# Altium integrated library Analog Devices Operational Amplifiers.IntLib: 2102 symbols (part 39 of 70)
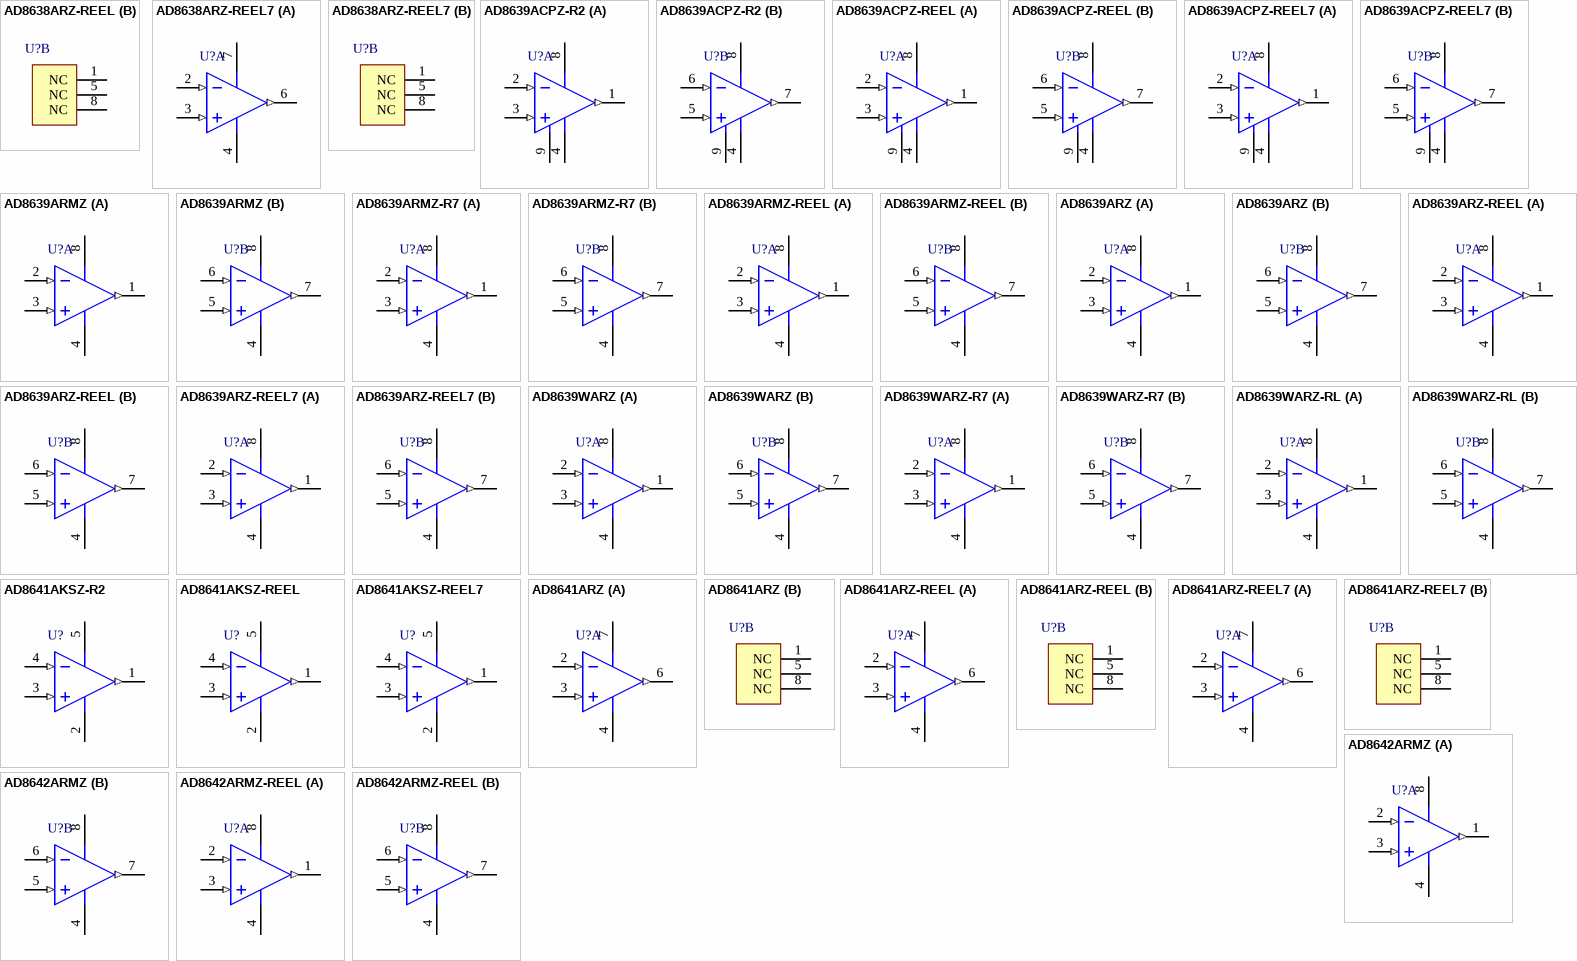
[diagram p152: symbols AD8638ARZ-REEL to AD8642ARMZ-REEL]

## AD8641ARZ-REEL
designator U?
Single Channel Very Low Input Bias Current Operational Amplifier, 3 MHz BW, 2 V/us SR, Industrial, 8-pin SOIC (R-8), Reel; Generic Part Number: AD8641; Manufacturer: Analog Devices; PartNumber: AD8641ARZ-REEL; Amplifiers Per Package: 1; Input Bias Current: 250fA; Input Offset Voltage: 50uV; Iq/Amp: 250µA; Slew Rate: 2V/us; Small Signal Bandwidth: 3MHz; V Span Max: 26V; V Span Min: 5V; DatasheetVersion: Rev. E; PackageVersion: 060506-A; PackageReference: R-8; PackageDescription: 8-Pin Standard Small Outline Package, Body 3.9 x 4.9 mm, Pitch 1.27 mm; Supplier 1: Digi-Key; Supplier Part Number 1: AD8641ARZ-REEL-ND; Mounting Technology: Surface Mount; Code_JEDEC: MS-012-AA; ComponentLink1Description: Manufacturer URL; ComponentLink1URL: http://www.analog.com/en/index.html; ComponentLink2Description: Datasheet; ComponentLink2URL: http://www.analog.com/static/imported-files/data_sheets/AD8641_8642_8643.pdf; ComponentLink3Description: Package Specification; ComponentLink3URL: http://www.analog.com/static/imported-files/packages/PKG_PDF/SOIC_Narrow%20(R)/R_8.pdf; ComponentLink4Description: Reference Circuit; ComponentLink4URL: http://www.analog.com/en/all-operational-amplifiers-op-amps/operational-amplifiers-op-amps/ad8641/products/product.html#product-recommendations
footprint ADI-R-8_N (SOIC, 8-Leads, Body 4.9x3.9mm, Pitch 1.27mm, IPC Medium Density)
footprint ADI-R-8_L (SOIC, 8-Leads, Body 4.9x3.9mm, Pitch 1.27mm, IPC High Density)
footprint ADI-R-8_M (SOIC, 8-Leads, Body 4.9x3.9mm, Pitch 1.27mm, IPC Low Density)
part A pins: 2 -IN (in), 3 +IN (in), 4 VEE (power), 6 OUT (out), 7 VCC (power)
part B pins: 1 NC, 5 NC, 8 NC

## AD8641ARZ-REEL7
designator U?
Single Channel Very Low Input Bias Current Operational Amplifier, 3 MHz BW, 2 V/us SR, Industrial, 8-pin SOIC (R-8), Reel; Generic Part Number: AD8641; Manufacturer: Analog Devices; PartNumber: AD8641ARZ-REEL7; Amplifiers Per Package: 1; Input Bias Current: 250fA; Input Offset Voltage: 50uV; Iq/Amp: 250µA; Slew Rate: 2V/us; Small Signal Bandwidth: 3MHz; V Span Max: 26V; V Span Min: 5V; DatasheetVersion: Rev. E; PackageVersion: 060506-A; PackageReference: R-8; PackageDescription: 8-Pin Standard Small Outline Package, Body 3.9 x 4.9 mm, Pitch 1.27 mm; Supplier 1: Digi-Key; Supplier Part Number 1: AD8641ARZ-REEL7-ND; Mounting Technology: Surface Mount; Code_JEDEC: MS-012-AA; ComponentLink1Description: Manufacturer URL; ComponentLink1URL: http://www.analog.com/en/index.html; ComponentLink2Description: Datasheet; ComponentLink2URL: http://www.analog.com/static/imported-files/data_sheets/AD8641_8642_8643.pdf; ComponentLink3Description: Package Specification; ComponentLink3URL: http://www.analog.com/static/imported-files/packages/PKG_PDF/SOIC_Narrow%20(R)/R_8.pdf; ComponentLink4Description: Reference Circuit; ComponentLink4URL: http://www.analog.com/en/all-operational-amplifiers-op-amps/operational-amplifiers-op-amps/ad8641/products/product.html#product-recommendations
footprint ADI-R-8_N (SOIC, 8-Leads, Body 4.9x3.9mm, Pitch 1.27mm, IPC Medium Density)
footprint ADI-R-8_L (SOIC, 8-Leads, Body 4.9x3.9mm, Pitch 1.27mm, IPC High Density)
footprint ADI-R-8_M (SOIC, 8-Leads, Body 4.9x3.9mm, Pitch 1.27mm, IPC Low Density)
part A pins: 2 -IN (in), 3 +IN (in), 4 VEE (power), 6 OUT (out), 7 VCC (power)
part B pins: 1 NC, 5 NC, 8 NC

## AD8642ARMZ
designator U?
Double Channel Very Low Input Bias Current Operational Amplifier, 3.5 MHz BW, 3 V/us SR, Industrial, 8-pin SOP (RM-8), Tube; Generic Part Number: AD8642; Manufacturer: Analog Devices; PartNumber: AD8642ARMZ; Amplifiers Per Package: 2; Input Bias Current: 250fA; Input Offset Voltage: 50uV; Iq/Amp: 290uA; Slew Rate: 3V/us; Small Signal Bandwidth: 3.5MHz; V Span Max: 26V; V Span Min: 5V; DatasheetVersion: Rev. E; PackageReference: RM-8; PackageDescription: 8-Pin Mini Small Outline Package, Body 3 x 3 mm, Pitch 0.65 mm; Supplier 1: Digi-Key; Supplier Part Number 1: AD8642ARMZ-ND; Supplier 2: Newark; Supplier Part Number 2: 45P6468; Mounting Technology: Surface Mount; Code_JEDEC: MO-187-AA; ComponentLink1Description: Manufacturer URL; ComponentLink1URL: http://www.analog.com/en/index.html; ComponentLink2Description: Datasheet; ComponentLink2URL: http://www.analog.com/static/imported-files/data_sheets/AD8641_8642_8643.pdf; ComponentLink3Description: Package Specification; ComponentLink3URL: http://www.analog.com/static/imported-files/packages/PKG_PDF/MSOP%28RM%29/RM_8.pdf
footprint ADI-RM-8_N (SOP, 8-Leads, Body 3x3mm, Pitch 0.65mm, IPC Medium Density)
footprint ADI-RM-8_L (SOP, 8-Leads, Body 3x3mm, Pitch 0.65mm, IPC High Density)
footprint ADI-RM-8_M (SOP, 8-Leads, Body 3x3mm, Pitch 0.65mm, IPC Low Density)
pins on every part: 4 -V (power), 8 +V (power)
part A pins: 1 OUT A (out), 2 -IN A (in), 3 +IN A (in)
part B pins: 5 +IN B (in), 6 -IN B (in), 7 OUT B (out)

## AD8642ARMZ-REEL
designator U?
Double Channel Very Low Input Bias Current Operational Amplifier, 3.5 MHz BW, 3 V/us SR, Industrial, 8-pin SOP (RM-8), Reel; Generic Part Number: AD8642; Manufacturer: Analog Devices; PartNumber: AD8642ARMZ-REEL; Amplifiers Per Package: 2; Input Bias Current: 250fA; Input Offset Voltage: 50uV; Iq/Amp: 290uA; Slew Rate: 3V/us; Small Signal Bandwidth: 3.5MHz; V Span Max: 26V; V Span Min: 5V; DatasheetVersion: Rev. E; PackageReference: RM-8; PackageDescription: 8-Pin Mini Small Outline Package, Body 3 x 3 mm, Pitch 0.65 mm; Supplier 1: Digi-Key; Supplier Part Number 1: AD8642ARMZ-REELTR-ND; Supplier 2: Digi-Key; Supplier Part Number 2: AD8642ARMZ-REELCT-ND; Supplier 3: Digi-Key; Supplier Part Number 3: AD8642ARMZ-REELDKR-ND; Supplier 4: Newark; Supplier Part Number 4: 59K7025; Mounting Technology: Surface Mount; Code_JEDEC: MO-187-AA; ComponentLink1Description: Manufacturer URL; ComponentLink1URL: http://www.analog.com/en/index.html; ComponentLink2Description: Datasheet; ComponentLink2URL: http://www.analog.com/static/imported-files/data_sheets/AD8641_8642_8643.pdf; ComponentLink3Description: Package Specification; ComponentLink3URL: http://www.analog.com/static/imported-files/packages/PKG_PDF/MSOP%28RM%29/RM_8.pdf
footprint ADI-RM-8_N (SOP, 8-Leads, Body 3x3mm, Pitch 0.65mm, IPC Medium Density)
footprint ADI-RM-8_L (SOP, 8-Leads, Body 3x3mm, Pitch 0.65mm, IPC High Density)
footprint ADI-RM-8_M (SOP, 8-Leads, Body 3x3mm, Pitch 0.65mm, IPC Low Density)
pins on every part: 4 -V (power), 8 +V (power)
part A pins: 1 OUT A (out), 2 -IN A (in), 3 +IN A (in)
part B pins: 5 +IN B (in), 6 -IN B (in), 7 OUT B (out)

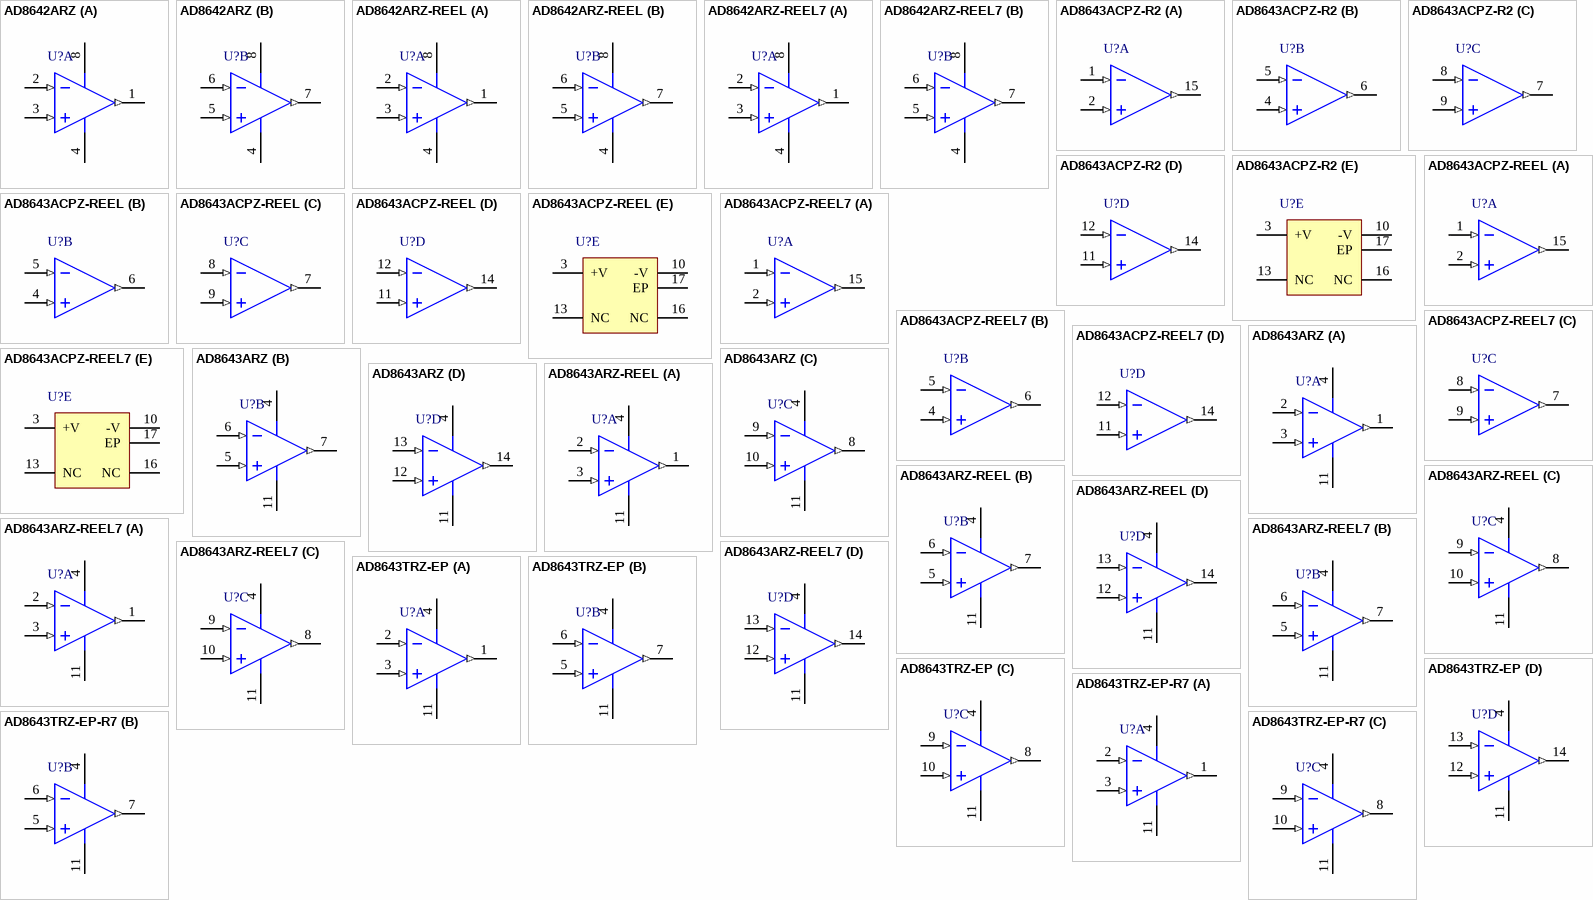
[diagram p59: symbols AD8642ARZ to AD8643TRZ-EP-R7]

## AD8642ARZ
designator U?
Double Channel Very Low Input Bias Current Operational Amplifier, 3.5 MHz BW, 3 V/us SR, Industrial, 8-pin SOIC (R-8), Tube; Generic Part Number: AD8642; Manufacturer: Analog Devices; PartNumber: AD8642ARZ; Amplifiers Per Package: 2; Input Bias Current: 250fA; Input Offset Voltage: 50uV; Iq/Amp: 290uA; Slew Rate: 3V/us; Small Signal Bandwidth: 3.5MHz; V Span Max: 26V; V Span Min: 5V; DatasheetVersion: Rev. E; PackageVersion: 060506-A; PackageReference: R-8; PackageDescription: 8-Pin Standard Small Outline Package, Body 3.9 x 4.9 mm, Pitch 1.27 mm; Supplier 1: Digi-Key; Supplier Part Number 1: AD8642ARZ-ND; Supplier 2: Farnell; Supplier Part Number 2: 9994327; Supplier 3: Newark; Supplier Part Number 3: 19M0986; Mounting Technology: Surface Mount; Code_JEDEC: MS-012-AA; ComponentLink1Description: Manufacturer URL; ComponentLink1URL: http://www.analog.com/en/index.html; ComponentLink2Description: Datasheet; ComponentLink2URL: http://www.analog.com/static/imported-files/data_sheets/AD8641_8642_8643.pdf; ComponentLink3Description: Package Specification; ComponentLink3URL: http://www.analog.com/static/imported-files/packages/PKG_PDF/SOIC_Narrow%20(R)/R_8.pdf
footprint ADI-R-8_N (SOIC, 8-Leads, Body 4.9x3.9mm, Pitch 1.27mm, IPC Medium Density)
footprint ADI-R-8_L (SOIC, 8-Leads, Body 4.9x3.9mm, Pitch 1.27mm, IPC High Density)
footprint ADI-R-8_M (SOIC, 8-Leads, Body 4.9x3.9mm, Pitch 1.27mm, IPC Low Density)
pins on every part: 4 -V (power), 8 +V (power)
part A pins: 1 OUT A (out), 2 -IN A (in), 3 +IN A (in)
part B pins: 5 +IN B (in), 6 -IN B (in), 7 OUT B (out)

## AD8642ARZ-REEL
designator U?
Double Channel Very Low Input Bias Current Operational Amplifier, 3.5 MHz BW, 3 V/us SR, Industrial, 8-pin SOIC (R-8), Reel; Generic Part Number: AD8642; Manufacturer: Analog Devices; PartNumber: AD8642ARZ-REEL; Amplifiers Per Package: 2; Input Bias Current: 250fA; Input Offset Voltage: 50uV; Iq/Amp: 290uA; Slew Rate: 3V/us; Small Signal Bandwidth: 3.5MHz; V Span Max: 26V; V Span Min: 5V; DatasheetVersion: Rev. E; PackageVersion: 060506-A; PackageReference: R-8; PackageDescription: 8-Pin Standard Small Outline Package, Body 3.9 x 4.9 mm, Pitch 1.27 mm; Supplier 1: Digi-Key; Supplier Part Number 1: AD8642ARZ-REEL-ND; Mounting Technology: Surface Mount; Code_JEDEC: MS-012-AA; ComponentLink1Description: Manufacturer URL; ComponentLink1URL: http://www.analog.com/en/index.html; ComponentLink2Description: Datasheet; ComponentLink2URL: http://www.analog.com/static/imported-files/data_sheets/AD8641_8642_8643.pdf; ComponentLink3Description: Package Specification; ComponentLink3URL: http://www.analog.com/static/imported-files/packages/PKG_PDF/SOIC_Narrow%20(R)/R_8.pdf
footprint ADI-R-8_N (SOIC, 8-Leads, Body 4.9x3.9mm, Pitch 1.27mm, IPC Medium Density)
footprint ADI-R-8_L (SOIC, 8-Leads, Body 4.9x3.9mm, Pitch 1.27mm, IPC High Density)
footprint ADI-R-8_M (SOIC, 8-Leads, Body 4.9x3.9mm, Pitch 1.27mm, IPC Low Density)
pins on every part: 4 -V (power), 8 +V (power)
part A pins: 1 OUT A (out), 2 -IN A (in), 3 +IN A (in)
part B pins: 5 +IN B (in), 6 -IN B (in), 7 OUT B (out)

## AD8642ARZ-REEL7
designator U?
Double Channel Very Low Input Bias Current Operational Amplifier, 3.5 MHz BW, 3 V/us SR, Industrial, 8-pin SOIC (R-8), Reel; Generic Part Number: AD8642; Manufacturer: Analog Devices; PartNumber: AD8642ARZ-REEL7; Amplifiers Per Package: 2; Input Bias Current: 250fA; Input Offset Voltage: 50uV; Iq/Amp: 290uA; Slew Rate: 3V/us; Small Signal Bandwidth: 3.5MHz; V Span Max: 26V; V Span Min: 5V; DatasheetVersion: Rev. E; PackageVersion: 060506-A; PackageReference: R-8; PackageDescription: 8-Pin Standard Small Outline Package, Body 3.9 x 4.9 mm, Pitch 1.27 mm; Supplier 1: Digi-Key; Supplier Part Number 1: AD8642ARZ-REEL7TR-ND; Supplier 2: Digi-Key; Supplier Part Number 2: AD8642ARZ-REEL7CT-ND; Supplier 3: Digi-Key; Supplier Part Number 3: AD8642ARZ-REEL7DKR-ND; Mounting Technology: Surface Mount; Code_JEDEC: MS-012-AA; ComponentLink1Description: Manufacturer URL; ComponentLink1URL: http://www.analog.com/en/index.html; ComponentLink2Description: Datasheet; ComponentLink2URL: http://www.analog.com/static/imported-files/data_sheets/AD8641_8642_8643.pdf; ComponentLink3Description: Package Specification; ComponentLink3URL: http://www.analog.com/static/imported-files/packages/PKG_PDF/SOIC_Narrow%20(R)/R_8.pdf
footprint ADI-R-8_N (SOIC, 8-Leads, Body 4.9x3.9mm, Pitch 1.27mm, IPC Medium Density)
footprint ADI-R-8_L (SOIC, 8-Leads, Body 4.9x3.9mm, Pitch 1.27mm, IPC High Density)
footprint ADI-R-8_M (SOIC, 8-Leads, Body 4.9x3.9mm, Pitch 1.27mm, IPC Low Density)
pins on every part: 4 -V (power), 8 +V (power)
part A pins: 1 OUT A (out), 2 -IN A (in), 3 +IN A (in)
part B pins: 5 +IN B (in), 6 -IN B (in), 7 OUT B (out)

## AD8643ACPZ-R2
designator U?
Quad Channel Very Low Input Bias Current Operational Amplifier, 3.5 MHz BW, 3 V/us SR, Industrial, 16-pin QFN (CP-16-3), Reel; Generic Part Number: AD8643; Manufacturer: Analog Devices; PartNumber: AD8643ACPZ-R2; Amplifiers Per Package: 4; Input Bias Current: 250fA; Input Offset Voltage: 50uV; Iq/Amp: 290uA; Slew Rate: 3V/us; Small Signal Bandwidth: 3.5MHz; V Span Max: 26V; V Span Min: 5V; DatasheetVersion: Rev. E; PackageReference: CP-16-3; PackageDescription: 16-Pin Lead Frame Chip Scale Package, Body 3 x 3 mm, Pitch 0.5 mm; Supplier 1: Digi-Key; Supplier Part Number 1: AD8643ACPZ-R2TR-ND; Supplier 2: Digi-Key; Supplier Part Number 2: AD8643ACPZ-R2CT-ND; Supplier 3: Digi-Key; Supplier Part Number 3: AD8643ACPZ-R2DKR-ND; Supplier 4: Newark; Supplier Part Number 4: 19M8937; Mounting Technology: Surface Mount; Code_JEDEC: MO-220-VEED-2; ComponentLink1Description: Manufacturer URL; ComponentLink1URL: http://www.analog.com/en/index.html; ComponentLink2Description: Datasheet; ComponentLink2URL: http://www.analog.com/static/imported-files/data_sheets/AD8641_8642_8643.pdf; ComponentLink3Description: Package Specification; ComponentLink3URL: http://www.analog.com/static/imported-files/packages/PKG_PDF/LFCSP(CP)/CP_16_3.pdf
footprint ADI-CP-16-3_N (QFN, 16-Leads, Body 3x3mm, Pitch 0.5mm, Thermal Pad 1.5x1.5mm, IPC Medium Density)
footprint ADI-CP-16-3_L (QFN, 16-Leads, Body 3x3mm, Pitch 0.5mm, Thermal Pad 1.5x1.5mm, IPC High Density)
footprint ADI-CP-16-3_M (QFN, 16-Leads, Body 3x3mm, Pitch 0.5mm, Thermal Pad 1.5x1.5mm, IPC Low Density)
part A pins: 1 -IN A (in), 2 +IN A (in), 15 OUT A (out)
part B pins: 4 +IN B (in), 5 -IN B (in), 6 OUT B (out)
part C pins: 7 OUT C (out), 8 -IN C (in), 9 +IN C (in)
part D pins: 11 +IN D (in), 12 -IN D (in), 14 OUT D (out)
part E pins: 3 +V (power), 10 -V (power), 13 NC, 16 NC, 17 EP (power) "IT IS RECOMMENDED TO CONNECT THE EXPOSED PAD TO V-."

## AD8643ACPZ-REEL
designator U?
Quad Channel Very Low Input Bias Current Operational Amplifier, 3.5 MHz BW, 3 V/us SR, Industrial, 16-pin QFN (CP-16-3), Reel; Generic Part Number: AD8643; Manufacturer: Analog Devices; PartNumber: AD8643ACPZ-REEL; Amplifiers Per Package: 4; Input Bias Current: 250fA; Input Offset Voltage: 50uV; Iq/Amp: 290uA; Slew Rate: 3V/us; Small Signal Bandwidth: 3.5MHz; V Span Max: 26V; V Span Min: 5V; DatasheetVersion: Rev. E; PackageReference: CP-16-3; PackageDescription: 16-Pin Lead Frame Chip Scale Package, Body 3 x 3 mm, Pitch 0.5 mm; Supplier 1: Digi-Key; Supplier Part Number 1: AD8643ACPZ-REEL-ND; Mounting Technology: Surface Mount; Code_JEDEC: MO-220-VEED-2; ComponentLink1Description: Manufacturer URL; ComponentLink1URL: http://www.analog.com/en/index.html; ComponentLink2Description: Datasheet; ComponentLink2URL: http://www.analog.com/static/imported-files/data_sheets/AD8641_8642_8643.pdf; ComponentLink3Description: Package Specification; ComponentLink3URL: http://www.analog.com/static/imported-files/packages/PKG_PDF/LFCSP(CP)/CP_16_3.pdf
footprint ADI-CP-16-3_N (QFN, 16-Leads, Body 3x3mm, Pitch 0.5mm, Thermal Pad 1.5x1.5mm, IPC Medium Density)
footprint ADI-CP-16-3_L (QFN, 16-Leads, Body 3x3mm, Pitch 0.5mm, Thermal Pad 1.5x1.5mm, IPC High Density)
footprint ADI-CP-16-3_M (QFN, 16-Leads, Body 3x3mm, Pitch 0.5mm, Thermal Pad 1.5x1.5mm, IPC Low Density)
part A pins: 1 -IN A (in), 2 +IN A (in), 15 OUT A (out)
part B pins: 4 +IN B (in), 5 -IN B (in), 6 OUT B (out)
part C pins: 7 OUT C (out), 8 -IN C (in), 9 +IN C (in)
part D pins: 11 +IN D (in), 12 -IN D (in), 14 OUT D (out)
part E pins: 3 +V (power), 10 -V (power), 13 NC, 16 NC, 17 EP (power) "IT IS RECOMMENDED TO CONNECT THE EXPOSED PAD TO V-."

## AD8643ACPZ-REEL7
designator U?
Quad Channel Very Low Input Bias Current Operational Amplifier, 3.5 MHz BW, 3 V/us SR, Industrial, 16-pin QFN (CP-16-3), Reel; Generic Part Number: AD8643; Manufacturer: Analog Devices; PartNumber: AD8643ACPZ-REEL7; Amplifiers Per Package: 4; Input Bias Current: 250fA; Input Offset Voltage: 50uV; Iq/Amp: 290uA; Slew Rate: 3V/us; Small Signal Bandwidth: 3.5MHz; V Span Max: 26V; V Span Min: 5V; DatasheetVersion: Rev. E; PackageReference: CP-16-3; PackageDescription: 16-Pin Lead Frame Chip Scale Package, Body 3 x 3 mm, Pitch 0.5 mm; Supplier 1: Digi-Key; Supplier Part Number 1: AD8643ACPZ-REEL7TR-ND; Supplier 2: Digi-Key; Supplier Part Number 2: AD8643ACPZ-REEL7CT-ND; Supplier 3: Digi-Key; Supplier Part Number 3: AD8643ACPZ-REEL7DKR-ND; Supplier 4: Newark; Supplier Part Number 4: 59K7031; Mounting Technology: Surface Mount; Code_JEDEC: MO-220-VEED-2; ComponentLink1Description: Manufacturer URL; ComponentLink1URL: http://www.analog.com/en/index.html; ComponentLink2Description: Datasheet; ComponentLink2URL: http://www.analog.com/static/imported-files/data_sheets/AD8641_8642_8643.pdf; ComponentLink3Description: Package Specification; ComponentLink3URL: http://www.analog.com/static/imported-files/packages/PKG_PDF/LFCSP(CP)/CP_16_3.pdf
footprint ADI-CP-16-3_N (QFN, 16-Leads, Body 3x3mm, Pitch 0.5mm, Thermal Pad 1.5x1.5mm, IPC Medium Density)
footprint ADI-CP-16-3_L (QFN, 16-Leads, Body 3x3mm, Pitch 0.5mm, Thermal Pad 1.5x1.5mm, IPC High Density)
footprint ADI-CP-16-3_M (QFN, 16-Leads, Body 3x3mm, Pitch 0.5mm, Thermal Pad 1.5x1.5mm, IPC Low Density)
part A pins: 1 -IN A (in), 2 +IN A (in), 15 OUT A (out)
part B pins: 4 +IN B (in), 5 -IN B (in), 6 OUT B (out)
part C pins: 7 OUT C (out), 8 -IN C (in), 9 +IN C (in)
part D pins: 11 +IN D (in), 12 -IN D (in), 14 OUT D (out)
part E pins: 3 +V (power), 10 -V (power), 13 NC, 16 NC, 17 EP (power) "IT IS RECOMMENDED TO CONNECT THE EXPOSED PAD TO V-."

## AD8643ARZ
designator U?
Quad Channel Very Low Input Bias Current Operational Amplifier, 3.5 MHz BW, 3 V/us SR, Industrial, 14-pin SOIC (R-14), Tube; Generic Part Number: AD8643; Manufacturer: Analog Devices; PartNumber: AD8643ARZ; Amplifiers Per Package: 4; Input Bias Current: 250fA; Input Offset Voltage: 50uV; Iq/Amp: 290uA; Slew Rate: 3V/us; Small Signal Bandwidth: 3.5MHz; V Span Max: 26V; V Span Min: 5V; DatasheetVersion: Rev. E; PackageVersion: 060606-A; PackageReference: R-14; PackageDescription: 14-Pin Standard Small Outline Package, Body 8.65 x 3.9 mm, Pitch 1.27 mm; Supplier 1: Digi-Key; Supplier Part Number 1: AD8643ARZ-ND; Supplier 2: Farnell; Supplier Part Number 2: 1078270; Supplier 3: Newark; Supplier Part Number 3: 19M0987; Mounting Technology: Surface Mount; Code_JEDEC: MS-012-AB; ComponentLink1Description: Manufacturer URL; ComponentLink1URL: http://www.analog.com/en/index.html; ComponentLink2Description: Datasheet; ComponentLink2URL: http://www.analog.com/static/imported-files/data_sheets/AD8641_8642_8643.pdf; ComponentLink3Description: Package Specification; ComponentLink3URL: http://www.analog.com/static/imported-files/packages/PKG_PDF/SOIC_Narrow%20(R)/R_14.pdf
footprint ADI-R-14_N (SOIC, 14-Leads, Body 8.65x3.9mm, Pitch 1.27mm, IPC Medium Density)
footprint ADI-R-14_L (SOIC, 14-Leads, Body 8.65x3.9mm, Pitch 1.27mm, IPC High Density)
footprint ADI-R-14_M (SOIC, 14-Leads, Body 8.65x3.9mm, Pitch 1.27mm, IPC Low Density)
pins on every part: 4 +V (power), 11 -V (power)
part A pins: 1 OUT A (out), 2 -IN A (in), 3 +IN A (in)
part B pins: 5 +IN B (in), 6 -IN B (in), 7 OUT B (out)
part C pins: 8 OUT C (out), 9 -IN C (in), 10 +IN C (in)
part D pins: 12 +IN D (in), 13 -IN D (in), 14 OUT D (out)

## AD8643ARZ-REEL
designator U?
Quad Channel Very Low Input Bias Current Operational Amplifier, 3.5 MHz BW, 3 V/us SR, Industrial, 14-pin SOIC (R-14), Reel; Generic Part Number: AD8643; Manufacturer: Analog Devices; PartNumber: AD8643ARZ-REEL; Amplifiers Per Package: 4; Input Bias Current: 250fA; Input Offset Voltage: 50uV; Iq/Amp: 290uA; Slew Rate: 3V/us; Small Signal Bandwidth: 3.5MHz; V Span Max: 26V; V Span Min: 5V; DatasheetVersion: Rev. E; PackageVersion: 060606-A; PackageReference: R-14; PackageDescription: 14-Pin Standard Small Outline Package, Body 8.65 x 3.9 mm, Pitch 1.27 mm; Supplier 1: Digi-Key; Supplier Part Number 1: AD8643ARZ-REEL-ND; Mounting Technology: Surface Mount; Code_JEDEC: MS-012-AB; ComponentLink1Description: Manufacturer URL; ComponentLink1URL: http://www.analog.com/en/index.html; ComponentLink2Description: Datasheet; ComponentLink2URL: http://www.analog.com/static/imported-files/data_sheets/AD8641_8642_8643.pdf; ComponentLink3Description: Package Specification; ComponentLink3URL: http://www.analog.com/static/imported-files/packages/PKG_PDF/SOIC_Narrow%20(R)/R_14.pdf
footprint ADI-R-14_N (SOIC, 14-Leads, Body 8.65x3.9mm, Pitch 1.27mm, IPC Medium Density)
footprint ADI-R-14_L (SOIC, 14-Leads, Body 8.65x3.9mm, Pitch 1.27mm, IPC High Density)
footprint ADI-R-14_M (SOIC, 14-Leads, Body 8.65x3.9mm, Pitch 1.27mm, IPC Low Density)
pins on every part: 4 +V (power), 11 -V (power)
part A pins: 1 OUT A (out), 2 -IN A (in), 3 +IN A (in)
part B pins: 5 +IN B (in), 6 -IN B (in), 7 OUT B (out)
part C pins: 8 OUT C (out), 9 -IN C (in), 10 +IN C (in)
part D pins: 12 +IN D (in), 13 -IN D (in), 14 OUT D (out)

## AD8643ARZ-REEL7
designator U?
Quad Channel Very Low Input Bias Current Operational Amplifier, 3.5 MHz BW, 3 V/us SR, Industrial, 14-pin SOIC (R-14), Reel; Generic Part Number: AD8643; Manufacturer: Analog Devices; PartNumber: AD8643ARZ-REEL7; Amplifiers Per Package: 4; Input Bias Current: 250fA; Input Offset Voltage: 50uV; Iq/Amp: 290uA; Slew Rate: 3V/us; Small Signal Bandwidth: 3.5MHz; V Span Max: 26V; V Span Min: 5V; DatasheetVersion: Rev. E; PackageVersion: 060606-A; PackageReference: R-14; PackageDescription: 14-Pin Standard Small Outline Package, Body 8.65 x 3.9 mm, Pitch 1.27 mm; Supplier 1: Digi-Key; Supplier Part Number 1: AD8643ARZ-REEL7-ND; Supplier 2: Newark; Supplier Part Number 2: 59K7035; Mounting Technology: Surface Mount; Code_JEDEC: MS-012-AB; ComponentLink1Description: Manufacturer URL; ComponentLink1URL: http://www.analog.com/en/index.html; ComponentLink2Description: Datasheet; ComponentLink2URL: http://www.analog.com/static/imported-files/data_sheets/AD8641_8642_8643.pdf; ComponentLink3Description: Package Specification; ComponentLink3URL: http://www.analog.com/static/imported-files/packages/PKG_PDF/SOIC_Narrow%20(R)/R_14.pdf
footprint ADI-R-14_N (SOIC, 14-Leads, Body 8.65x3.9mm, Pitch 1.27mm, IPC Medium Density)
footprint ADI-R-14_L (SOIC, 14-Leads, Body 8.65x3.9mm, Pitch 1.27mm, IPC High Density)
footprint ADI-R-14_M (SOIC, 14-Leads, Body 8.65x3.9mm, Pitch 1.27mm, IPC Low Density)
pins on every part: 4 +V (power), 11 -V (power)
part A pins: 1 OUT A (out), 2 -IN A (in), 3 +IN A (in)
part B pins: 5 +IN B (in), 6 -IN B (in), 7 OUT B (out)
part C pins: 8 OUT C (out), 9 -IN C (in), 10 +IN C (in)
part D pins: 12 +IN D (in), 13 -IN D (in), 14 OUT D (out)

## AD8643TRZ-EP
designator U?
Quad Channel Very Low Input Bias Current Operational Amplifier, 3.5 MHz BW, 3 V/us SR, Military, 14-pin SOIC (R-14), Tube; Generic Part Number: AD8643; Manufacturer: Analog Devices; PartNumber: AD8643TRZ-EP; Amplifiers Per Package: 4; Input Bias Current: 250fA; Input Offset Voltage: 50uV; Iq/Amp: 290uA; Slew Rate: 3V/us; Small Signal Bandwidth: 3.5MHz; V Span Max: 26V; V Span Min: 5V; DatasheetVersion: Rev. E; PackageVersion: 060606-A; PackageReference: R-14; PackageDescription: 14-Pin Standard Small Outline Package, Body 8.65 x 3.9 mm, Pitch 1.27 mm; Supplier 1: Digi-Key; Supplier Part Number 1: AD8643TRZ-EP-ND; Mounting Technology: Surface Mount; Code_JEDEC: MS-012-AB; ComponentLink1Description: Manufacturer URL; ComponentLink1URL: http://www.analog.com/en/index.html; ComponentLink2Description: Datasheet; ComponentLink2URL: http://www.analog.com/static/imported-files/data_sheets/AD8641_8642_8643.pdf; ComponentLink3Description: Package Specification; ComponentLink3URL: http://www.analog.com/static/imported-files/packages/PKG_PDF/SOIC_Narrow%20(R)/R_14.pdf
footprint ADI-R-14_N (SOIC, 14-Leads, Body 8.65x3.9mm, Pitch 1.27mm, IPC Medium Density)
footprint ADI-R-14_L (SOIC, 14-Leads, Body 8.65x3.9mm, Pitch 1.27mm, IPC High Density)
footprint ADI-R-14_M (SOIC, 14-Leads, Body 8.65x3.9mm, Pitch 1.27mm, IPC Low Density)
pins on every part: 4 +V (power), 11 -V (power)
part A pins: 1 OUT A (out), 2 -IN A (in), 3 +IN A (in)
part B pins: 5 +IN B (in), 6 -IN B (in), 7 OUT B (out)
part C pins: 8 OUT C (out), 9 -IN C (in), 10 +IN C (in)
part D pins: 12 +IN D (in), 13 -IN D (in), 14 OUT D (out)

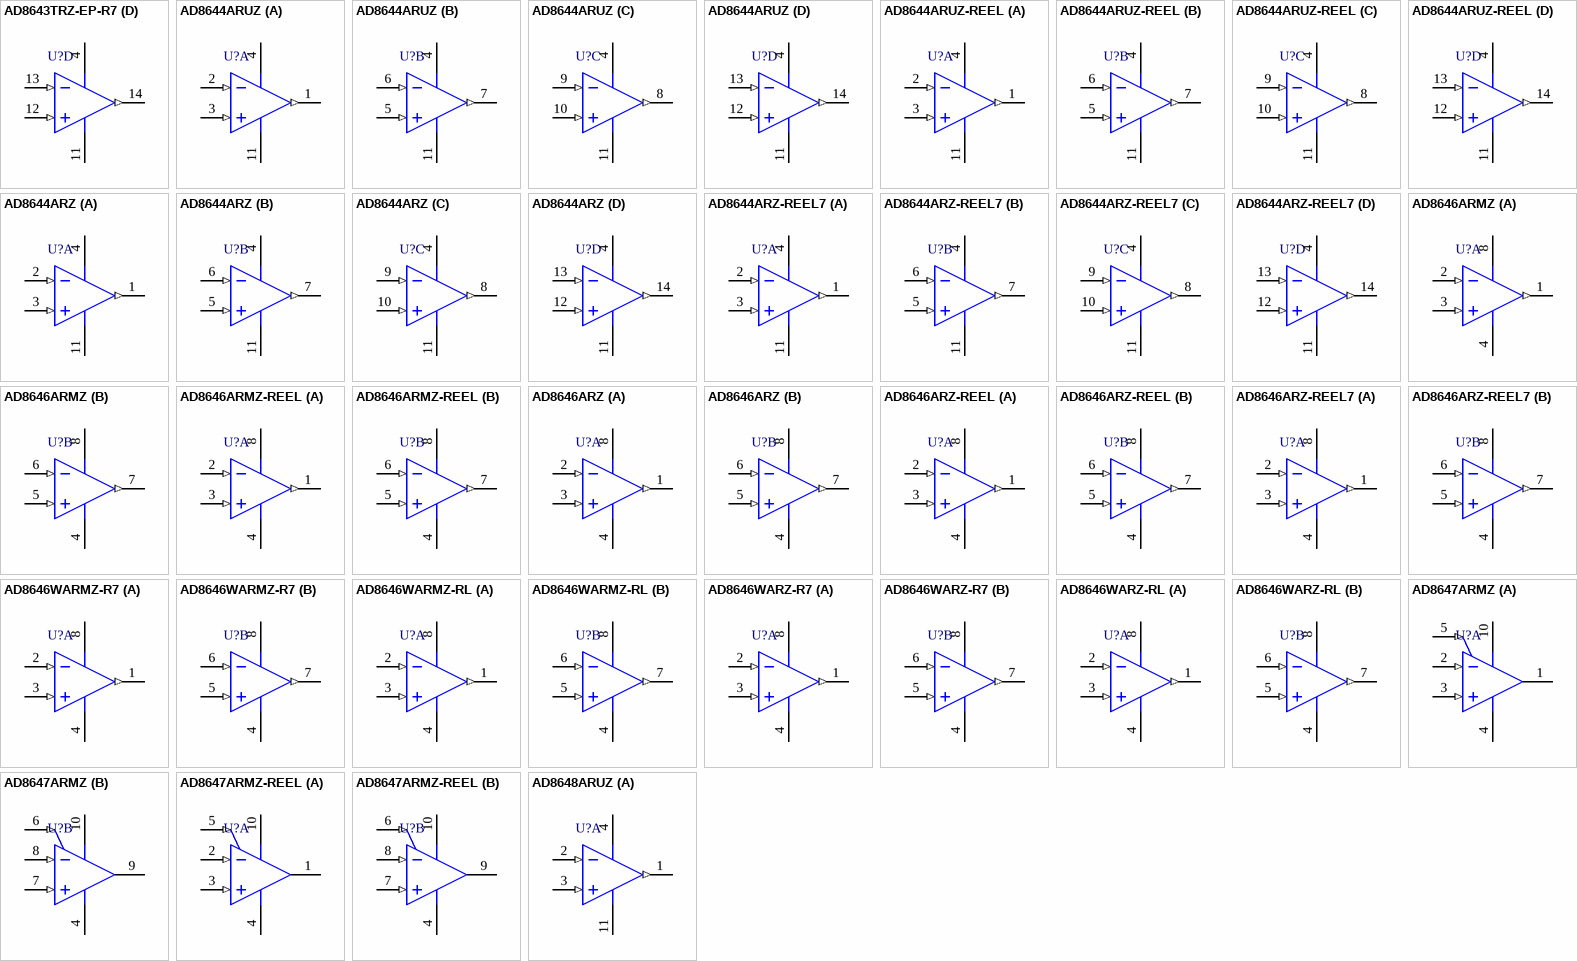
[diagram p60: symbols AD8643TRZ-EP-R7 to AD8648ARUZ]

## AD8643TRZ-EP-R7
designator U?
Quad Channel Very Low Input Bias Current Operational Amplifier, 3.5 MHz BW, 3 V/us SR, Military, 14-pin SOIC (R-14), Reel; Generic Part Number: AD8643; Manufacturer: Analog Devices; PartNumber: AD8643TRZ-EP-R7; Amplifiers Per Package: 4; Input Bias Current: 250fA; Input Offset Voltage: 50uV; Iq/Amp: 290uA; Slew Rate: 3V/us; Small Signal Bandwidth: 3.5MHz; V Span Max: 26V; V Span Min: 5V; DatasheetVersion: Rev. E; PackageVersion: 060606-A; PackageReference: R-14; PackageDescription: 14-Pin Standard Small Outline Package, Body 8.65 x 3.9 mm, Pitch 1.27 mm; Supplier 1: Digi-Key; Supplier Part Number 1: AD8643TRZ-EP-R7TR-ND; Supplier 2: Digi-Key; Supplier Part Number 2: AD8643TRZ-EP-R7CT-ND; Supplier 3: Digi-Key; Supplier Part Number 3: AD8643TRZ-EP-R7DKR-ND; Mounting Technology: Surface Mount; Code_JEDEC: MS-012-AB; ComponentLink1Description: Manufacturer URL; ComponentLink1URL: http://www.analog.com/en/index.html; ComponentLink2Description: Datasheet; ComponentLink2URL: http://www.analog.com/static/imported-files/data_sheets/AD8641_8642_8643.pdf; ComponentLink3Description: Package Specification; ComponentLink3URL: http://www.analog.com/static/imported-files/packages/PKG_PDF/SOIC_Narrow%20(R)/R_14.pdf
footprint ADI-R-14_N (SOIC, 14-Leads, Body 8.65x3.9mm, Pitch 1.27mm, IPC Medium Density)
footprint ADI-R-14_L (SOIC, 14-Leads, Body 8.65x3.9mm, Pitch 1.27mm, IPC High Density)
footprint ADI-R-14_M (SOIC, 14-Leads, Body 8.65x3.9mm, Pitch 1.27mm, IPC Low Density)
pins on every part: 4 +V (power), 11 -V (power)
part A pins: 1 OUT A (out), 2 -IN A (in), 3 +IN A (in)
part B pins: 5 +IN B (in), 6 -IN B (in), 7 OUT B (out)
part C pins: 8 OUT C (out), 9 -IN C (in), 10 +IN C (in)
part D pins: 12 +IN D (in), 13 -IN D (in), 14 OUT D (out)

## AD8644ARUZ
designator U?
Quad Channel Single-Supply Operation Operational Amplifier, 5.5 MHz BW, 7.5 V/us SR, Industrial, 14-pin SOP (RU-14), Tube; Generic Part Number: AD8644; Manufacturer: Analog Devices; PartNumber: AD8644ARUZ; Amplifiers Per Package: 4; Input Bias Current: 80nA; Input Offset Voltage: 1mV; Iq/Amp: 1.1mA; Small Signal Bandwidth: 5.5MHz; V Span Max: 18V; V Span Min: 5V; DatasheetVersion: Rev. B; PackageReference: RU-14; PackageDescription: 14-Pin Thin Shrink Small Outline Package, Body 5 x 4.4 mm, Pitch 0.65 mm; Supplier 1: Digi-Key; Supplier Part Number 1: AD8644ARUZ-ND; Slew Rate: 7.5V/us; Mounting Technology: Surface Mount; Code_JEDEC: MO-153AB-1; ComponentLink1Description: Manufacturer URL; ComponentLink1URL: http://www.analog.com/en/index.html; ComponentLink2Description: Datasheet; ComponentLink2URL: http://www.analog.com/static/imported-files/data_sheets/AD8614_8644.pdf; ComponentLink3Description: Package Specification; ComponentLink3URL: http://www.analog.com/static/imported-files/packages/36057385283879153717235186773RU14.pdf
footprint ADI-RU-14_N (SOP, 14-Leads, Body 5x4.4mm, Pitch 0.65mm, IPC Medium Density)
footprint ADI-RU-14_L (SOP, 14-Leads, Body 5x4.4mm, Pitch 0.65mm, IPC High Density)
footprint ADI-RU-14_M (SOP, 14-Leads, Body 5x4.4mm, Pitch 0.65mm, IPC Low Density)
pins on every part: 4 +V (power), 11 -V (power)
part A pins: 1 OUT A (out), 2 -IN A (in), 3 +IN A (in)
part B pins: 5 +IN B (in), 6 -IN B (in), 7 OUT B (out)
part C pins: 8 OUT C (out), 9 -IN C (in), 10 +IN C (in)
part D pins: 12 +IN D (in), 13 -IN D (in), 14 OUT D (out)

## AD8644ARUZ-REEL
designator U?
Quad Channel Single-Supply Operation Operational Amplifier, 5.5 MHz BW, 7.5 V/us SR, Industrial, 14-pin SOP (RU-14), Reel; Generic Part Number: AD8644; Manufacturer: Analog Devices; PartNumber: AD8644ARUZ-REEL; Amplifiers Per Package: 4; Input Bias Current: 80nA; Input Offset Voltage: 1mV; Iq/Amp: 1.1mA; Small Signal Bandwidth: 5.5MHz; V Span Max: 18V; V Span Min: 5V; DatasheetVersion: Rev. B; PackageReference: RU-14; PackageDescription: 14-Pin Thin Shrink Small Outline Package, Body 5 x 4.4 mm, Pitch 0.65 mm; Supplier 1: Digi-Key; Supplier Part Number 1: AD8644ARUZ-REEL-ND; Slew Rate: 7.5V/us; Mounting Technology: Surface Mount; Code_JEDEC: MO-153AB-1; ComponentLink1Description: Manufacturer URL; ComponentLink1URL: http://www.analog.com/en/index.html; ComponentLink2Description: Datasheet; ComponentLink2URL: http://www.analog.com/static/imported-files/data_sheets/AD8614_8644.pdf; ComponentLink3Description: Package Specification; ComponentLink3URL: http://www.analog.com/static/imported-files/packages/36057385283879153717235186773RU14.pdf
footprint ADI-RU-14_N (SOP, 14-Leads, Body 5x4.4mm, Pitch 0.65mm, IPC Medium Density)
footprint ADI-RU-14_L (SOP, 14-Leads, Body 5x4.4mm, Pitch 0.65mm, IPC High Density)
footprint ADI-RU-14_M (SOP, 14-Leads, Body 5x4.4mm, Pitch 0.65mm, IPC Low Density)
pins on every part: 4 +V (power), 11 -V (power)
part A pins: 1 OUT A (out), 2 -IN A (in), 3 +IN A (in)
part B pins: 5 +IN B (in), 6 -IN B (in), 7 OUT B (out)
part C pins: 8 OUT C (out), 9 -IN C (in), 10 +IN C (in)
part D pins: 12 +IN D (in), 13 -IN D (in), 14 OUT D (out)

## AD8644ARZ
designator U?
Quad Channel Single-Supply Operation Operational Amplifier, 5.5 MHz BW, 7.5 V/us SR, Industrial, 14-pin SOIC (R-14), Tube; Generic Part Number: AD8644; Manufacturer: Analog Devices; PartNumber: AD8644ARZ; Amplifiers Per Package: 4; Input Bias Current: 80nA; Input Offset Voltage: 1mV; Iq/Amp: 1.1mA; Small Signal Bandwidth: 5.5MHz; V Span Max: 18V; V Span Min: 5V; DatasheetVersion: Rev. B; PackageVersion: 060606-A; PackageReference: R-14; PackageDescription: 14-Pin Standard Small Outline Package, Body 8.65 x 3.9 mm, Pitch 1.27 mm; Supplier 1: Digi-Key; Supplier Part Number 1: AD8644ARZ-ND; Supplier 2: Farnell; Supplier Part Number 2: 1438873; Supplier 3: Newark; Supplier Part Number 3: 59K7037; Slew Rate: 7.5V/us; Mounting Technology: Surface Mount; Code_JEDEC: MS-012-AB; ComponentLink1Description: Manufacturer URL; ComponentLink1URL: http://www.analog.com/en/index.html; ComponentLink2Description: Datasheet; ComponentLink2URL: http://www.analog.com/static/imported-files/data_sheets/AD8614_8644.pdf; ComponentLink3Description: Package Specification; ComponentLink3URL: http://www.analog.com/static/imported-files/packages/PKG_PDF/SOIC_Narrow%20(R)/R_14.pdf
footprint ADI-R-14_N (SOIC, 14-Leads, Body 8.65x3.9mm, Pitch 1.27mm, IPC Medium Density)
footprint ADI-R-14_L (SOIC, 14-Leads, Body 8.65x3.9mm, Pitch 1.27mm, IPC High Density)
footprint ADI-R-14_M (SOIC, 14-Leads, Body 8.65x3.9mm, Pitch 1.27mm, IPC Low Density)
pins on every part: 4 +V (power), 11 -V (power)
part A pins: 1 OUT A (out), 2 -IN A (in), 3 +IN A (in)
part B pins: 5 +IN B (in), 6 -IN B (in), 7 OUT B (out)
part C pins: 8 OUT C (out), 9 -IN C (in), 10 +IN C (in)
part D pins: 12 +IN D (in), 13 -IN D (in), 14 OUT D (out)

## AD8644ARZ-REEL7
designator U?
Quad Channel Single-Supply Operation Operational Amplifier, 5.5 MHz BW, 7.5 V/us SR, Industrial, 14-pin SOIC (R-14), Reel; Generic Part Number: AD8644; Manufacturer: Analog Devices; PartNumber: AD8644ARZ-REEL7; Amplifiers Per Package: 4; Input Bias Current: 80nA; Input Offset Voltage: 1mV; Iq/Amp: 1.1mA; Small Signal Bandwidth: 5.5MHz; V Span Max: 18V; V Span Min: 5V; DatasheetVersion: Rev. B; PackageVersion: 060606-A; PackageReference: R-14; PackageDescription: 14-Pin Standard Small Outline Package, Body 8.65 x 3.9 mm, Pitch 1.27 mm; Supplier 1: Digi-Key; Supplier Part Number 1: AD8644ARZ-REEL7TR-ND; Supplier 2: Digi-Key; Supplier Part Number 2: AD8644ARZ-REEL7CT-ND; Supplier 3: Digi-Key; Supplier Part Number 3: AD8644ARZ-REEL7DKR-ND; Slew Rate: 7.5V/us; Mounting Technology: Surface Mount; Code_JEDEC: MS-012-AB; ComponentLink1Description: Manufacturer URL; ComponentLink1URL: http://www.analog.com/en/index.html; ComponentLink2Description: Datasheet; ComponentLink2URL: http://www.analog.com/static/imported-files/data_sheets/AD8614_8644.pdf; ComponentLink3Description: Package Specification; ComponentLink3URL: http://www.analog.com/static/imported-files/packages/PKG_PDF/SOIC_Narrow%20(R)/R_14.pdf
footprint ADI-R-14_N (SOIC, 14-Leads, Body 8.65x3.9mm, Pitch 1.27mm, IPC Medium Density)
footprint ADI-R-14_L (SOIC, 14-Leads, Body 8.65x3.9mm, Pitch 1.27mm, IPC High Density)
footprint ADI-R-14_M (SOIC, 14-Leads, Body 8.65x3.9mm, Pitch 1.27mm, IPC Low Density)
pins on every part: 4 +V (power), 11 -V (power)
part A pins: 1 OUT A (out), 2 -IN A (in), 3 +IN A (in)
part B pins: 5 +IN B (in), 6 -IN B (in), 7 OUT B (out)
part C pins: 8 OUT C (out), 9 -IN C (in), 10 +IN C (in)
part D pins: 12 +IN D (in), 13 -IN D (in), 14 OUT D (out)

## AD8646ARMZ
designator U?
Double Channel Wide Bandwidth Operational Amplifier, 24 MHz BW, 11 V/us SR, Industrial, 8-pin SOP (RM-8), Tube; Generic Part Number: AD8646; Manufacturer: Analog Devices; PartNumber: AD8646ARMZ; Amplifiers Per Package: 2; Automotive Qualified: Yes; Input Bias Current: 300fA; Input Offset Voltage: 600uV; Iq/Amp: 2mA; Slew Rate: 11V/us; Small Signal Bandwidth: 24MHz; V Span Max: 5.5V; V Span Min: 2.7V; DatasheetVersion: Rev. D; PackageReference: RM-8; PackageDescription: 8-Pin Mini Small Outline Package, Body 3 x 3 mm, Pitch 0.65 mm; Supplier 1: Digi-Key; Supplier Part Number 1: AD8646ARMZ-ND; Supplier 2: Farnell; Supplier Part Number 2: 2094200; Supplier 3: Newark; Supplier Part Number 3: 34P3249; Mounting Technology: Surface Mount; Code_JEDEC: MO-187-AA; ComponentLink1Description: Manufacturer URL; ComponentLink1URL: http://www.analog.com/en/index.html; ComponentLink2Description: Datasheet; ComponentLink2URL: http://www.analog.com/static/imported-files/data_sheets/AD8646_8647_8648.pdf; ComponentLink3Description: Package Specification; ComponentLink3URL: http://www.analog.com/static/imported-files/packages/PKG_PDF/MSOP%28RM%29/RM_8.pdf; ComponentLink4Description: Reference Circuit; ComponentLink4URL: http://www.analog.com/en/all-operational-amplifiers-op-amps/operational-amplifiers-op-amps/ad8646/products/product.html#product-recommendations
footprint ADI-RM-8_N (SOP, 8-Leads, Body 3x3mm, Pitch 0.65mm, IPC Medium Density)
footprint ADI-RM-8_L (SOP, 8-Leads, Body 3x3mm, Pitch 0.65mm, IPC High Density)
footprint ADI-RM-8_M (SOP, 8-Leads, Body 3x3mm, Pitch 0.65mm, IPC Low Density)
pins on every part: 4 -V (power), 8 +V (power)
part A pins: 1 OUT A (out), 2 -IN A (in), 3 +IN A (in)
part B pins: 5 +IN B (in), 6 -IN B (in), 7 OUT B (out)

## AD8646ARMZ-REEL
designator U?
Double Channel Wide Bandwidth Operational Amplifier, 24 MHz BW, 11 V/us SR, Industrial, 8-pin SOP (RM-8), Reel; Generic Part Number: AD8646; Manufacturer: Analog Devices; PartNumber: AD8646ARMZ-REEL; Amplifiers Per Package: 2; Automotive Qualified: Yes; Input Bias Current: 300fA; Input Offset Voltage: 600uV; Iq/Amp: 2mA; Slew Rate: 11V/us; Small Signal Bandwidth: 24MHz; V Span Max: 5.5V; V Span Min: 2.7V; DatasheetVersion: Rev. D; PackageReference: RM-8; PackageDescription: 8-Pin Mini Small Outline Package, Body 3 x 3 mm, Pitch 0.65 mm; Supplier 1: Digi-Key; Supplier Part Number 1: AD8646ARMZ-REELTR-ND; Supplier 2: Digi-Key; Supplier Part Number 2: AD8646ARMZ-REELCT-ND; Supplier 3: Digi-Key; Supplier Part Number 3: AD8646ARMZ-REELDKR-ND; Supplier 4: Newark; Supplier Part Number 4: 52M2982; Mounting Technology: Surface Mount; Code_JEDEC: MO-187-AA; ComponentLink1Description: Manufacturer URL; ComponentLink1URL: http://www.analog.com/en/index.html; ComponentLink2Description: Datasheet; ComponentLink2URL: http://www.analog.com/static/imported-files/data_sheets/AD8646_8647_8648.pdf; ComponentLink3Description: Package Specification; ComponentLink3URL: http://www.analog.com/static/imported-files/packages/PKG_PDF/MSOP%28RM%29/RM_8.pdf; ComponentLink4Description: Reference Circuit; ComponentLink4URL: http://www.analog.com/en/all-operational-amplifiers-op-amps/operational-amplifiers-op-amps/ad8646/products/product.html#product-recommendations
footprint ADI-RM-8_N (SOP, 8-Leads, Body 3x3mm, Pitch 0.65mm, IPC Medium Density)
footprint ADI-RM-8_L (SOP, 8-Leads, Body 3x3mm, Pitch 0.65mm, IPC High Density)
footprint ADI-RM-8_M (SOP, 8-Leads, Body 3x3mm, Pitch 0.65mm, IPC Low Density)
pins on every part: 4 -V (power), 8 +V (power)
part A pins: 1 OUT A (out), 2 -IN A (in), 3 +IN A (in)
part B pins: 5 +IN B (in), 6 -IN B (in), 7 OUT B (out)

## AD8646ARZ
designator U?
Double Channel Wide Bandwidth Operational Amplifier, 24 MHz BW, 11 V/us SR, Industrial, 8-pin SOIC (R-8), Tube; Generic Part Number: AD8646; Manufacturer: Analog Devices; PartNumber: AD8646ARZ; Amplifiers Per Package: 2; Automotive Qualified: Yes; Input Bias Current: 300fA; Input Offset Voltage: 600uV; Iq/Amp: 2mA; Slew Rate: 11V/us; Small Signal Bandwidth: 24MHz; V Span Max: 5.5V; V Span Min: 2.7V; DatasheetVersion: Rev. D; PackageVersion: 060506-A; PackageReference: R-8; PackageDescription: 8-Pin Standard Small Outline Package, Body 3.9 x 4.9 mm, Pitch 1.27 mm; Supplier 1: Digi-Key; Supplier Part Number 1: AD8646ARZ-ND; Supplier 2: Farnell; Supplier Part Number 2: 1440771; Supplier 3: Newark; Supplier Part Number 3: 52M2984; Mounting Technology: Surface Mount; Code_JEDEC: MS-012-AA; ComponentLink1Description: Manufacturer URL; ComponentLink1URL: http://www.analog.com/en/index.html; ComponentLink2Description: Datasheet; ComponentLink2URL: http://www.analog.com/static/imported-files/data_sheets/AD8646_8647_8648.pdf; ComponentLink3Description: Package Specification; ComponentLink3URL: http://www.analog.com/static/imported-files/packages/PKG_PDF/SOIC_Narrow%20(R)/R_8.pdf; ComponentLink4Description: Reference Circuit; ComponentLink4URL: http://www.analog.com/en/all-operational-amplifiers-op-amps/operational-amplifiers-op-amps/ad8646/products/product.html#product-recommendations
footprint ADI-R-8_N (SOIC, 8-Leads, Body 4.9x3.9mm, Pitch 1.27mm, IPC Medium Density)
footprint ADI-R-8_L (SOIC, 8-Leads, Body 4.9x3.9mm, Pitch 1.27mm, IPC High Density)
footprint ADI-R-8_M (SOIC, 8-Leads, Body 4.9x3.9mm, Pitch 1.27mm, IPC Low Density)
pins on every part: 4 -V (power), 8 +V (power)
part A pins: 1 OUT A (out), 2 -IN A (in), 3 +IN A (in)
part B pins: 5 +IN B (in), 6 -IN B (in), 7 OUT B (out)

## AD8646ARZ-REEL
designator U?
Double Channel Wide Bandwidth Operational Amplifier, 24 MHz BW, 11 V/us SR, Industrial, 8-pin SOIC (R-8), Reel; Generic Part Number: AD8646; Manufacturer: Analog Devices; PartNumber: AD8646ARZ-REEL; Amplifiers Per Package: 2; Automotive Qualified: Yes; Input Bias Current: 300fA; Input Offset Voltage: 600uV; Iq/Amp: 2mA; Slew Rate: 11V/us; Small Signal Bandwidth: 24MHz; V Span Max: 5.5V; V Span Min: 2.7V; DatasheetVersion: Rev. D; PackageVersion: 060506-A; PackageReference: R-8; PackageDescription: 8-Pin Standard Small Outline Package, Body 3.9 x 4.9 mm, Pitch 1.27 mm; Supplier 1: Digi-Key; Supplier Part Number 1: AD8646ARZ-REEL-ND; Supplier 2: Newark; Supplier Part Number 2: 52M2985; Mounting Technology: Surface Mount; Code_JEDEC: MS-012-AA; ComponentLink1Description: Manufacturer URL; ComponentLink1URL: http://www.analog.com/en/index.html; ComponentLink2Description: Datasheet; ComponentLink2URL: http://www.analog.com/static/imported-files/data_sheets/AD8646_8647_8648.pdf; ComponentLink3Description: Package Specification; ComponentLink3URL: http://www.analog.com/static/imported-files/packages/PKG_PDF/SOIC_Narrow%20(R)/R_8.pdf; ComponentLink4Description: Reference Circuit; ComponentLink4URL: http://www.analog.com/en/all-operational-amplifiers-op-amps/operational-amplifiers-op-amps/ad8646/products/product.html#product-recommendations
footprint ADI-R-8_N (SOIC, 8-Leads, Body 4.9x3.9mm, Pitch 1.27mm, IPC Medium Density)
footprint ADI-R-8_L (SOIC, 8-Leads, Body 4.9x3.9mm, Pitch 1.27mm, IPC High Density)
footprint ADI-R-8_M (SOIC, 8-Leads, Body 4.9x3.9mm, Pitch 1.27mm, IPC Low Density)
pins on every part: 4 -V (power), 8 +V (power)
part A pins: 1 OUT A (out), 2 -IN A (in), 3 +IN A (in)
part B pins: 5 +IN B (in), 6 -IN B (in), 7 OUT B (out)

## AD8646ARZ-REEL7
designator U?
Double Channel Wide Bandwidth Operational Amplifier, 24 MHz BW, 11 V/us SR, Industrial, 8-pin SOIC (R-8), Reel; Generic Part Number: AD8646; Manufacturer: Analog Devices; PartNumber: AD8646ARZ-REEL7; Amplifiers Per Package: 2; Automotive Qualified: Yes; Input Bias Current: 300fA; Input Offset Voltage: 600uV; Iq/Amp: 2mA; Slew Rate: 11V/us; Small Signal Bandwidth: 24MHz; V Span Max: 5.5V; V Span Min: 2.7V; DatasheetVersion: Rev. D; PackageVersion: 060506-A; PackageReference: R-8; PackageDescription: 8-Pin Standard Small Outline Package, Body 3.9 x 4.9 mm, Pitch 1.27 mm; Supplier 1: Digi-Key; Supplier Part Number 1: AD8646ARZ-REEL7TR-ND; Supplier 2: Digi-Key; Supplier Part Number 2: AD8646ARZ-REEL7CT-ND; Supplier 3: Digi-Key; Supplier Part Number 3: AD8646ARZ-REEL7DKR-ND; Supplier 4: Newark; Supplier Part Number 4: 52M2986; Mounting Technology: Surface Mount; Code_JEDEC: MS-012-AA; ComponentLink1Description: Manufacturer URL; ComponentLink1URL: http://www.analog.com/en/index.html; ComponentLink2Description: Datasheet; ComponentLink2URL: http://www.analog.com/static/imported-files/data_sheets/AD8646_8647_8648.pdf; ComponentLink3Description: Package Specification; ComponentLink3URL: http://www.analog.com/static/imported-files/packages/PKG_PDF/SOIC_Narrow%20(R)/R_8.pdf; ComponentLink4Description: Reference Circuit; ComponentLink4URL: http://www.analog.com/en/all-operational-amplifiers-op-amps/operational-amplifiers-op-amps/ad8646/products/product.html#product-recommendations
footprint ADI-R-8_N (SOIC, 8-Leads, Body 4.9x3.9mm, Pitch 1.27mm, IPC Medium Density)
footprint ADI-R-8_L (SOIC, 8-Leads, Body 4.9x3.9mm, Pitch 1.27mm, IPC High Density)
footprint ADI-R-8_M (SOIC, 8-Leads, Body 4.9x3.9mm, Pitch 1.27mm, IPC Low Density)
pins on every part: 4 -V (power), 8 +V (power)
part A pins: 1 OUT A (out), 2 -IN A (in), 3 +IN A (in)
part B pins: 5 +IN B (in), 6 -IN B (in), 7 OUT B (out)

## AD8646WARMZ-R7
designator U?
Double Channel Wide Bandwidth Operational Amplifier, 24 MHz BW, 11 V/us SR, Automotive, 8-pin SOP (RM-8), Reel; Generic Part Number: AD8646; Manufacturer: Analog Devices; PartNumber: AD8646WARMZ-R7; Amplifiers Per Package: 2; Automotive Qualified: Yes; Input Bias Current: 300fA; Input Offset Voltage: 600uV; Iq/Amp: 2mA; Slew Rate: 11V/us; Small Signal Bandwidth: 24MHz; V Span Max: 5.5V; V Span Min: 2.7V; DatasheetVersion: Rev. D; PackageReference: RM-8; PackageDescription: 8-Pin Mini Small Outline Package, Body 3 x 3 mm, Pitch 0.65 mm; Supplier 1: Digi-Key; Supplier Part Number 1: AD8646WARMZ-R7TR-ND; Supplier 2: Digi-Key; Supplier Part Number 2: AD8646WARMZ-R7CT-ND; Supplier 3: Digi-Key; Supplier Part Number 3: AD8646WARMZ-R7DKR-ND; Mounting Technology: Surface Mount; Code_JEDEC: MO-187-AA; ComponentLink1Description: Manufacturer URL; ComponentLink1URL: http://www.analog.com/en/index.html; ComponentLink2Description: Datasheet; ComponentLink2URL: http://www.analog.com/static/imported-files/data_sheets/AD8646_8647_8648.pdf; ComponentLink3Description: Package Specification; ComponentLink3URL: http://www.analog.com/static/imported-files/packages/PKG_PDF/MSOP%28RM%29/RM_8.pdf; ComponentLink4Description: Reference Circuit; ComponentLink4URL: http://www.analog.com/en/all-operational-amplifiers-op-amps/operational-amplifiers-op-amps/ad8646/products/product.html#product-recommendations
footprint ADI-RM-8_N (SOP, 8-Leads, Body 3x3mm, Pitch 0.65mm, IPC Medium Density)
footprint ADI-RM-8_L (SOP, 8-Leads, Body 3x3mm, Pitch 0.65mm, IPC High Density)
footprint ADI-RM-8_M (SOP, 8-Leads, Body 3x3mm, Pitch 0.65mm, IPC Low Density)
pins on every part: 4 -V (power), 8 +V (power)
part A pins: 1 OUT A (out), 2 -IN A (in), 3 +IN A (in)
part B pins: 5 +IN B (in), 6 -IN B (in), 7 OUT B (out)

## AD8646WARMZ-RL
designator U?
Double Channel Wide Bandwidth Operational Amplifier, 24 MHz BW, 11 V/us SR, Automotive, 8-pin SOP (RM-8), Reel; Generic Part Number: AD8646; Manufacturer: Analog Devices; PartNumber: AD8646WARMZ-RL; Amplifiers Per Package: 2; Automotive Qualified: Yes; Input Bias Current: 300fA; Input Offset Voltage: 600uV; Iq/Amp: 2mA; Slew Rate: 11V/us; Small Signal Bandwidth: 24MHz; V Span Max: 5.5V; V Span Min: 2.7V; DatasheetVersion: Rev. D; PackageReference: RM-8; PackageDescription: 8-Pin Mini Small Outline Package, Body 3 x 3 mm, Pitch 0.65 mm; Supplier 1: Digi-Key; Supplier Part Number 1: AD8646WARMZ-RL-ND; Mounting Technology: Surface Mount; Code_JEDEC: MO-187-AA; ComponentLink1Description: Manufacturer URL; ComponentLink1URL: http://www.analog.com/en/index.html; ComponentLink2Description: Datasheet; ComponentLink2URL: http://www.analog.com/static/imported-files/data_sheets/AD8646_8647_8648.pdf; ComponentLink3Description: Package Specification; ComponentLink3URL: http://www.analog.com/static/imported-files/packages/PKG_PDF/MSOP%28RM%29/RM_8.pdf; ComponentLink4Description: Reference Circuit; ComponentLink4URL: http://www.analog.com/en/all-operational-amplifiers-op-amps/operational-amplifiers-op-amps/ad8646/products/product.html#product-recommendations
footprint ADI-RM-8_N (SOP, 8-Leads, Body 3x3mm, Pitch 0.65mm, IPC Medium Density)
footprint ADI-RM-8_L (SOP, 8-Leads, Body 3x3mm, Pitch 0.65mm, IPC High Density)
footprint ADI-RM-8_M (SOP, 8-Leads, Body 3x3mm, Pitch 0.65mm, IPC Low Density)
pins on every part: 4 -V (power), 8 +V (power)
part A pins: 1 OUT A (out), 2 -IN A (in), 3 +IN A (in)
part B pins: 5 +IN B (in), 6 -IN B (in), 7 OUT B (out)

## AD8646WARZ-R7
designator U?
Double Channel Wide Bandwidth Operational Amplifier, 24 MHz BW, 11 V/us SR, Automotive, 8-pin SOIC (R-8), Reel; Generic Part Number: AD8646; Manufacturer: Analog Devices; PartNumber: AD8646WARZ-R7; Amplifiers Per Package: 2; Automotive Qualified: Yes; Input Bias Current: 300fA; Input Offset Voltage: 600uV; Iq/Amp: 2mA; Slew Rate: 11V/us; Small Signal Bandwidth: 24MHz; V Span Max: 5.5V; V Span Min: 2.7V; DatasheetVersion: Rev. D; PackageVersion: 060506-A; PackageReference: R-8; PackageDescription: 8-Pin Standard Small Outline Package, Body 3.9 x 4.9 mm, Pitch 1.27 mm; Supplier 1: Digi-Key; Supplier Part Number 1: AD8646WARZ-R7TR-ND; Supplier 2: Digi-Key; Supplier Part Number 2: AD8646WARZ-R7CT-ND; Supplier 3: Digi-Key; Supplier Part Number 3: AD8646WARZ-R7DKR-ND; Supplier 4: Newark; Supplier Part Number 4: 76R7632; Mounting Technology: Surface Mount; Code_JEDEC: MS-012-AA; ComponentLink1Description: Manufacturer URL; ComponentLink1URL: http://www.analog.com/en/index.html; ComponentLink2Description: Datasheet; ComponentLink2URL: http://www.analog.com/static/imported-files/data_sheets/AD8646_8647_8648.pdf; ComponentLink3Description: Package Specification; ComponentLink3URL: http://www.analog.com/static/imported-files/packages/PKG_PDF/SOIC_Narrow%20(R)/R_8.pdf; ComponentLink4Description: Reference Circuit; ComponentLink4URL: http://www.analog.com/en/all-operational-amplifiers-op-amps/operational-amplifiers-op-amps/ad8646/products/product.html#product-recommendations
footprint ADI-R-8_N (SOIC, 8-Leads, Body 4.9x3.9mm, Pitch 1.27mm, IPC Medium Density)
footprint ADI-R-8_L (SOIC, 8-Leads, Body 4.9x3.9mm, Pitch 1.27mm, IPC High Density)
footprint ADI-R-8_M (SOIC, 8-Leads, Body 4.9x3.9mm, Pitch 1.27mm, IPC Low Density)
pins on every part: 4 -V (power), 8 +V (power)
part A pins: 1 OUT A (out), 2 -IN A (in), 3 +IN A (in)
part B pins: 5 +IN B (in), 6 -IN B (in), 7 OUT B (out)

## AD8646WARZ-RL
designator U?
Double Channel Wide Bandwidth Operational Amplifier, 24 MHz BW, 11 V/us SR, Automotive, 8-pin SOIC (R-8), Reel; Generic Part Number: AD8646; Manufacturer: Analog Devices; PartNumber: AD8646WARZ-RL; Amplifiers Per Package: 2; Automotive Qualified: Yes; Input Bias Current: 300fA; Input Offset Voltage: 600uV; Iq/Amp: 2mA; Slew Rate: 11V/us; Small Signal Bandwidth: 24MHz; V Span Max: 5.5V; V Span Min: 2.7V; DatasheetVersion: Rev. D; PackageVersion: 060506-A; PackageReference: R-8; PackageDescription: 8-Pin Standard Small Outline Package, Body 3.9 x 4.9 mm, Pitch 1.27 mm; Supplier 1: Digi-Key; Supplier Part Number 1: AD8646WARZ-RL-ND; Mounting Technology: Surface Mount; Code_JEDEC: MS-012-AA; ComponentLink1Description: Manufacturer URL; ComponentLink1URL: http://www.analog.com/en/index.html; ComponentLink2Description: Datasheet; ComponentLink2URL: http://www.analog.com/static/imported-files/data_sheets/AD8646_8647_8648.pdf; ComponentLink3Description: Package Specification; ComponentLink3URL: http://www.analog.com/static/imported-files/packages/PKG_PDF/SOIC_Narrow%20(R)/R_8.pdf; ComponentLink4Description: Reference Circuit; ComponentLink4URL: http://www.analog.com/en/all-operational-amplifiers-op-amps/operational-amplifiers-op-amps/ad8646/products/product.html#product-recommendations
footprint ADI-R-8_N (SOIC, 8-Leads, Body 4.9x3.9mm, Pitch 1.27mm, IPC Medium Density)
footprint ADI-R-8_L (SOIC, 8-Leads, Body 4.9x3.9mm, Pitch 1.27mm, IPC High Density)
footprint ADI-R-8_M (SOIC, 8-Leads, Body 4.9x3.9mm, Pitch 1.27mm, IPC Low Density)
pins on every part: 4 -V (power), 8 +V (power)
part A pins: 1 OUT A (out), 2 -IN A (in), 3 +IN A (in)
part B pins: 5 +IN B (in), 6 -IN B (in), 7 OUT B (out)